# Altium footprint library CANTerm.PcbLib: 3 footprints
Each footprint in its own frame and in the unit in brackets; x right, y up, seen from the top. Pads: shape width x height; smd on the part's side, far side on the other; paste and mask are expansions set on the pad; w line width, h text height; cw(c..) or ccw(c..) is an arc to the next point about the centre after c.
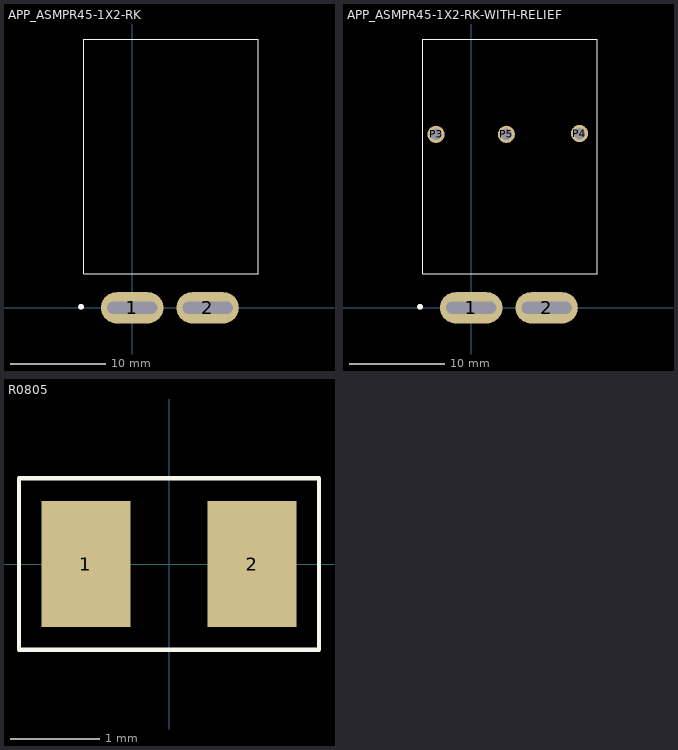
[diagram p0: the footprints below, top view; thin cyan lines are the x and y axes]

## APP_ASMPR45-1X2-RK [mm]
pads (2):
  oval 6.54x3.27 hole 1.27 slot 5.23 at 0 deg: 1(0,0) 2(7.9,0)
Top Overlay:
  circle w0.3: c-5.35,0.1 r0.15
  lines w0.127: -5.08,3.54 13.208,3.54 13.208,28.14 -5.08,28.14 -5.08,3.54
Mechanical 13:
  circle w0.3: c-5.35,0.1 r0.15
3D body "ASMPR45-1X2-RK--3DModel-STEP-269445.STEP": height 8.41, standoff -5.69, extent -4.108,-0.457 12.192,28.143

## APP_ASMPR45-1X2-RK-WITH-RELIEF [mm]
pads (5):
  oval 6.54x3.27 hole 1.27 slot 5.23 at 0 deg: 1(0,0) 2(7.9,0)
  round 1.8 hole 1.2: P3(-3.683,18.161) P4(11.34,18.24) P5(3.683,18.161)
Top Overlay:
  circle w0.3: c-5.35,0.1 r0.15
  lines w0.127: -5.08,3.54 -5.08,28.14 13.208,28.14 13.208,3.54 -5.08,3.54
Mechanical 13:
  circle w0.3: c-5.35,0.1 r0.15
3D body "ASMPR45-1X2-RK--3DModel-STEP-269445.STEP": height 8.41, standoff -5.69, extent -4.108,-0.457 12.192,28.143

## R0805 [mm] "CRGCQ0805Fxxxx"
pads (2):
  rect 1x1.42 smd: 1(-0.935,0) 2(0.935,0)
Top Overlay:
  lines w0.05: -1.685,-0.962 -1.685,0.962 1.685,0.962 1.685,-0.962 -1.685,-0.962
3D body "CRGCQ0805F120R.STEP": height 0.66, standoff 0.01, extent -1,-0.625 1,0.625